# Altium footprint library WE-CSTLF.PcbLib: 1 footprints
Each footprint in its own frame and in the unit in brackets; x right, y up, seen from the top. Pads: shape width x height; smd on the part's side, far side on the other; paste and mask are expansions set on the pad; w line width, h text height; cw(c..) or ccw(c..) is an arc to the next point about the centre after c.
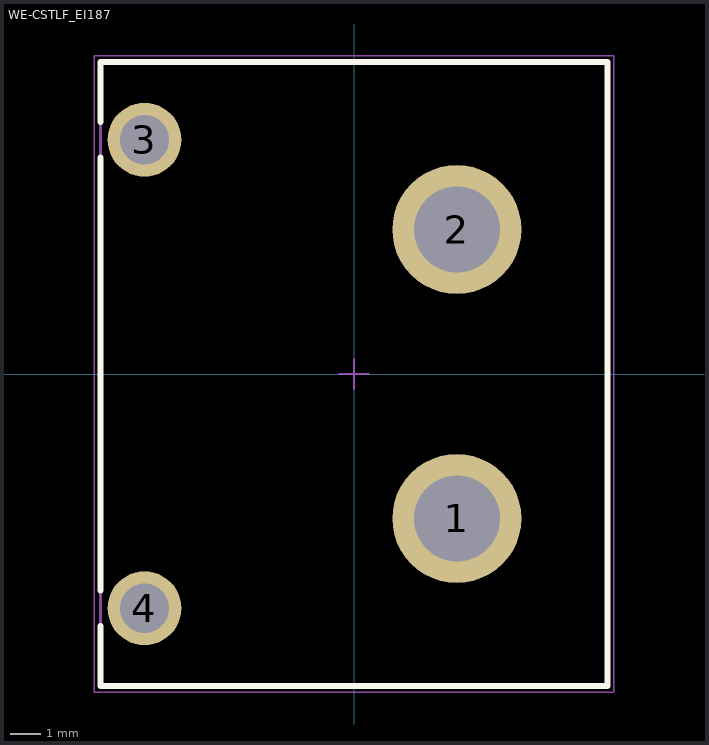
[diagram p0: the footprint, top view; thin cyan lines are the x and y axes]

## WE-CSTLF_EI187 [mm] "Current Sense Transformer, body 16.50 x 20.30 mm"
height 17
pads (4):
  round 4.2 hole 2.8: 1(3.345,-4.7) 2(3.345,4.7)
  round 2.4 hole 1.6: 3(-6.815,7.62) 4(-6.815,-7.62)
Top Overlay:
  lines w0.2: -8.25,-8.2 -8.25,-10.15 8.25,-10.15 8.25,10.15 -8.25,10.15 -8.25,8.2 ; -8.25,-7.04 -8.25,7.04
Top Component Outline:
  lines w0.1: -8.25,-10.15 8.25,-10.15 8.25,10.15 -8.25,10.15 -8.25,-10.15
Top Courtyard:
  lines w0.05: -8.45,-10.35 -8.45,10.35 8.45,10.35 8.45,-10.35 -8.45,-10.35
Top Component Center:
  lines w0.05: -0.5,0 0.5,0 ; 0,-0.5 0,0.5
Top Designator (Mech19):
  text ".Designator" at -7.498,-0.5 h1.5
3D body "WE-CSTLF_EI187_STP (rev1).STEP": height 16.81, standoff -3.19, extent -7.815,-9.65 7.815,9.65